# Altium footprint library MG0228-x.PcbLib: 1 footprints
Each footprint in its own frame and in the unit in brackets; x right, y up, seen from the top. Pads: shape width x height; smd on the part's side, far side on the other; paste and mask are expansions set on the pad; w line width, h text height; cw(c..) or ccw(c..) is an arc to the next point about the centre after c.
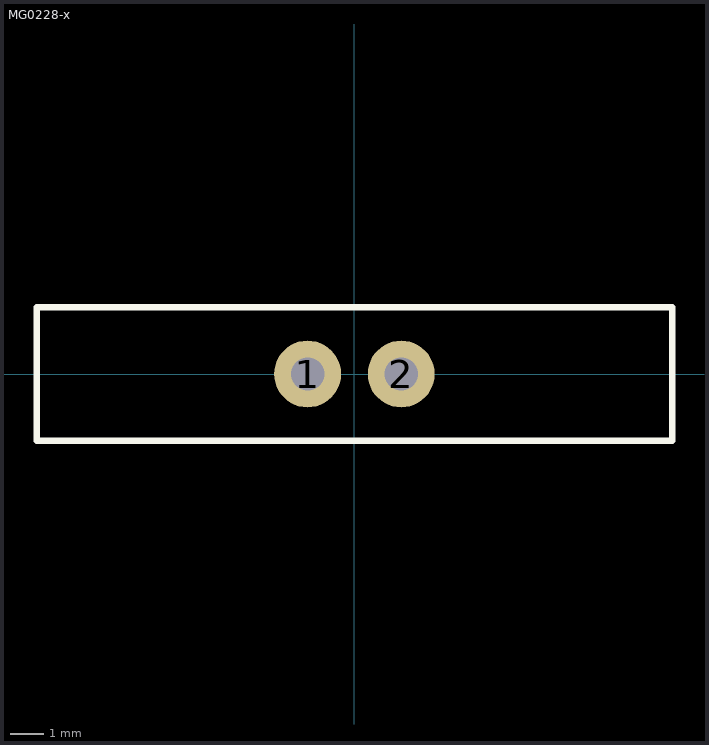
[diagram p0: the footprint, top view; thin cyan lines are the x and y axes]

## MG0228-x [mm]
pads (2):
  round 2 hole 1: 1(-1.4,0) 2(1.4,0)
Top Overlay:
  lines w0.2: -9.5,-2 9.5,-2 9.5,2 -9.5,2 -9.5,-2
Top Assembly:
  lines w0.1: -9.525,-2 9.5,-2 9.5,2 -9.525,2 -9.525,-2
  text "'.Designator'" at 0.1,0.367 h0.8
3D body "Magnet Pad Connector - R01FS.step": height 4, standoff -1.75, extent -9.5,-2 9.5,2